# Altium footprint library E22-400M33S.PcbLib: 1 footprints
Each footprint in its own frame and in the unit in brackets; x right, y up, seen from the top. Pads: shape width x height; smd on the part's side, far side on the other; paste and mask are expansions set on the pad; w line width, h text height; cw(c..) or ccw(c..) is an arc to the next point about the centre after c.
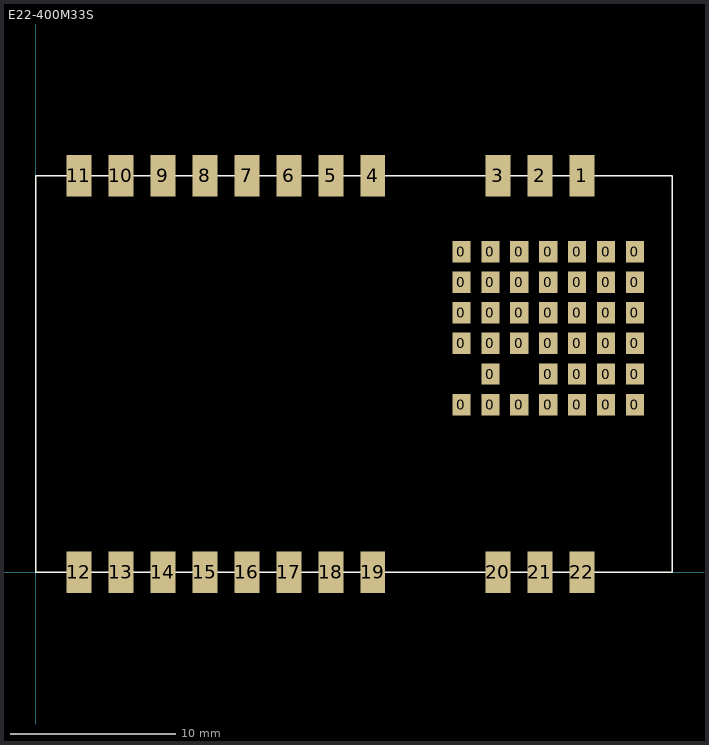
[diagram p0: the footprint, top view; thin cyan lines are the x and y axes]

## E22-400M33S [mm]
pads (62):
  rect 1.1x1.3 smd: 0(25.75,10.15) 0(25.75,13.85) 0(25.75,15.7) 0(25.75,17.55) 0(25.75,19.4) 0(27.5,10.15) 0(27.5,12) 0(27.5,13.85) 0(27.5,15.7) 0(27.5,17.55) 0(27.5,19.4) 0(29.25,10.15) 0(29.25,13.85) 0(29.25,15.7) 0(29.25,17.55) 0(29.25,19.4) 0(31,10.15) 0(31,12) 0(31,13.85) 0(31,15.7) 0(31,17.55) 0(31,19.4) 0(32.75,10.15) 0(32.75,12) 0(32.75,13.85) 0(32.75,15.7) 0(32.75,17.55) 0(32.75,19.4) 0(34.5,10.15) 0(34.5,12) 0(34.5,13.85) 0(34.5,15.7) 0(34.5,17.55) 0(34.5,19.4) 0(36.25,10.15) 0(36.25,12) 0(36.25,13.85) 0(36.25,15.7) 0(36.25,17.55) 0(36.25,19.4)
  rect 1.5x2.5 smd: 1(33.04,24) 2(30.5,24) 3(27.96,24) 4(20.39,24) 5(17.85,24) 6(15.31,24) 7(12.77,24) 8(10.23,24) 9(7.69,24) 10(5.15,24) 11(2.61,24) 12(2.61,0) 13(5.15,0) 14(7.69,0) 15(10.23,0) 16(12.77,0) 17(15.31,0) 18(17.85,0) 19(20.39,0) 20(27.96,0) 21(30.5,0) 22(33.04,0)
Top Overlay:
  lines w0.1: 0,0 38.5,0 38.5,24 0,24 0,0